# Altium schematic symbol library MT7681_MOD.SchLib: 1 symbol
Pins are listed as number, name and electrical type; pins without a type are passive.

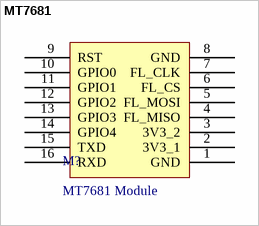
[diagram p0: symbol MT7681]

## MT7681
designator M?, comment MT7681 Module
pins: 1 GND, 2 3V3_1, 3 3V3_2, 4 FL_MISO, 5 FL_MOSI, 6 FL_CS, 7 FL_CLK, 8 GND, 9 RST, 10 GPIO0, 11 GPIO1, 12 GPIO2, 13 GPIO3, 14 GPIO4, 15 TXD, 16 RXD